# EAGLE library part PSW-1211 (library ic)
PSW-1211: SPDT RF switch (Mini Circuits) 10-2500MHz
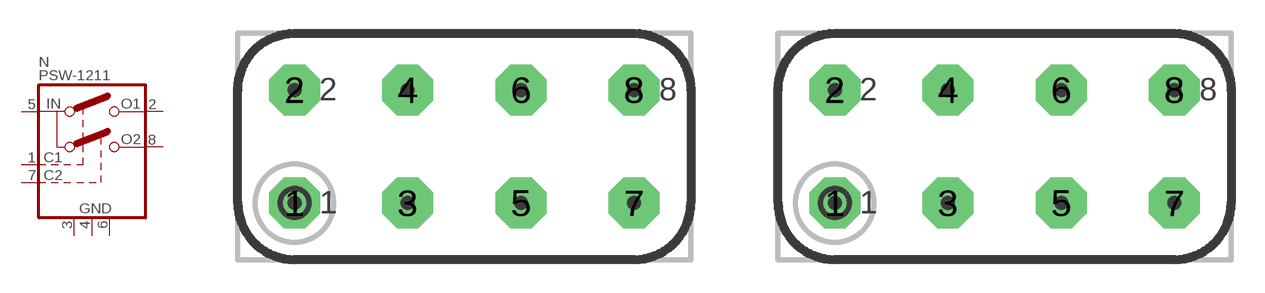
[diagram p46: symbol with the pads of MC-A01N; footprints MC-A01N, MC-A01G]

Designator prefix N

## PSW-1211  [MC-A01N]
1  C1  in
2  O1
3  GND  pwr
4  GND  pwr
5  IN
6  GND  pwr
7  C2  in
8  O2

## PSW-1211G  [MC-A01G]
Pads as for MC-A01N

## Footprint MC-A01N (pad centres in mm)
Mini-Circuits A01 Metal case (20*10mm), 8 pins, Broken top plane
drill 0.991 pad 2.286 octagon: 1 -7.62,-2.54; 2 -7.62,2.54; 3 -2.54,-2.54; 4 -2.54,2.54; 5 2.54,-2.54; 6 2.54,2.54; 7 7.62,-2.54; 8 7.62,2.54

## Footprint MC-A01G (pad centres in mm)
Mini-Circuits A01 Metal case (20*10mm), 8 pins
drill 0.991 pad 2.286 octagon: 1 -7.62,-2.54; 2 -7.62,2.54; 3 -2.54,-2.54; 4 -2.54,2.54; 5 2.54,-2.54; 6 2.54,2.54; 7 7.62,-2.54; 8 7.62,2.54